# Altium schematic symbol library sensormodule.SchLib: 1 symbol
Pins are listed as number, name and electrical type; pins without a type are passive.

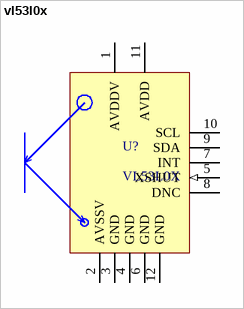
[diagram p0: symbol vl53l0x]

## vl53l0x
designator U?, comment VL53L0X
vl53l0x ToF sensor
footprint LGA12C80P3X5_240X440X105 (LGA, 12-Leads, Body 2.40x4.40mmx1.05mm, Pitch 0.80mm)
pins: 1 AVDDV (power), 2 AVSSV (power), 3 GND (power), 4 GND (power), 5 XSHUT (in), 6 GND (power), 7 INT (oc), 8 DNC, 9 SDA (oc), 10 SCL (oc), 11 AVDD (power), 12 GND (power)